# EAGLE library part ADS7841ESQDBQRQ1 (library texas-instruments.2)
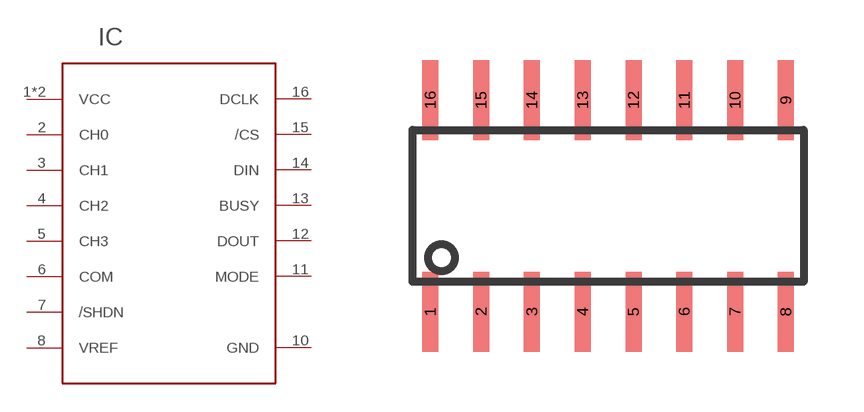
[diagram p12: symbol with the pads of D_R-PDSO-G16; footprint D_R-PDSO-G16]

Designator prefix IC

## ADS7841ESQDBQRQ1  [D_R-PDSO-G16]
1  VCC
2  CH0
3  CH1
4  CH2
5  CH3
6  COM
7  /SHDN
8  VREF
9  VCC
10  GND
11  MODE
12  DOUT
13  BUSY
14  DIN
15  /CS
16  DCLK

## Footprint D_R-PDSO-G16 (pad centres in mm)
PLASTIC SMALL-OUTLINE PACKAGE SO 16 JEDEC MS-012, D Type Source: www.ti.com/.. slvs087l.pdf
smd 0.4 x 2: 1 -4.445,-2.65; 2 -3.175,-2.65; 3 -1.905,-2.65; 4 -0.635,-2.65; 5 0.635,-2.65; 6 1.905,-2.65; 7 3.175,-2.65; 8 4.445,-2.65; 9 4.445,2.65; 10 3.175,2.65; 11 1.905,2.65; 12 0.635,2.65; 13 -0.635,2.65; 14 -1.905,2.65; 15 -3.175,2.65; 16 -4.445,2.65